# Altium integrated library Analog Devices Interface and Isolation Digital Isolators.IntLib: 644 symbols (part 34 of 37)
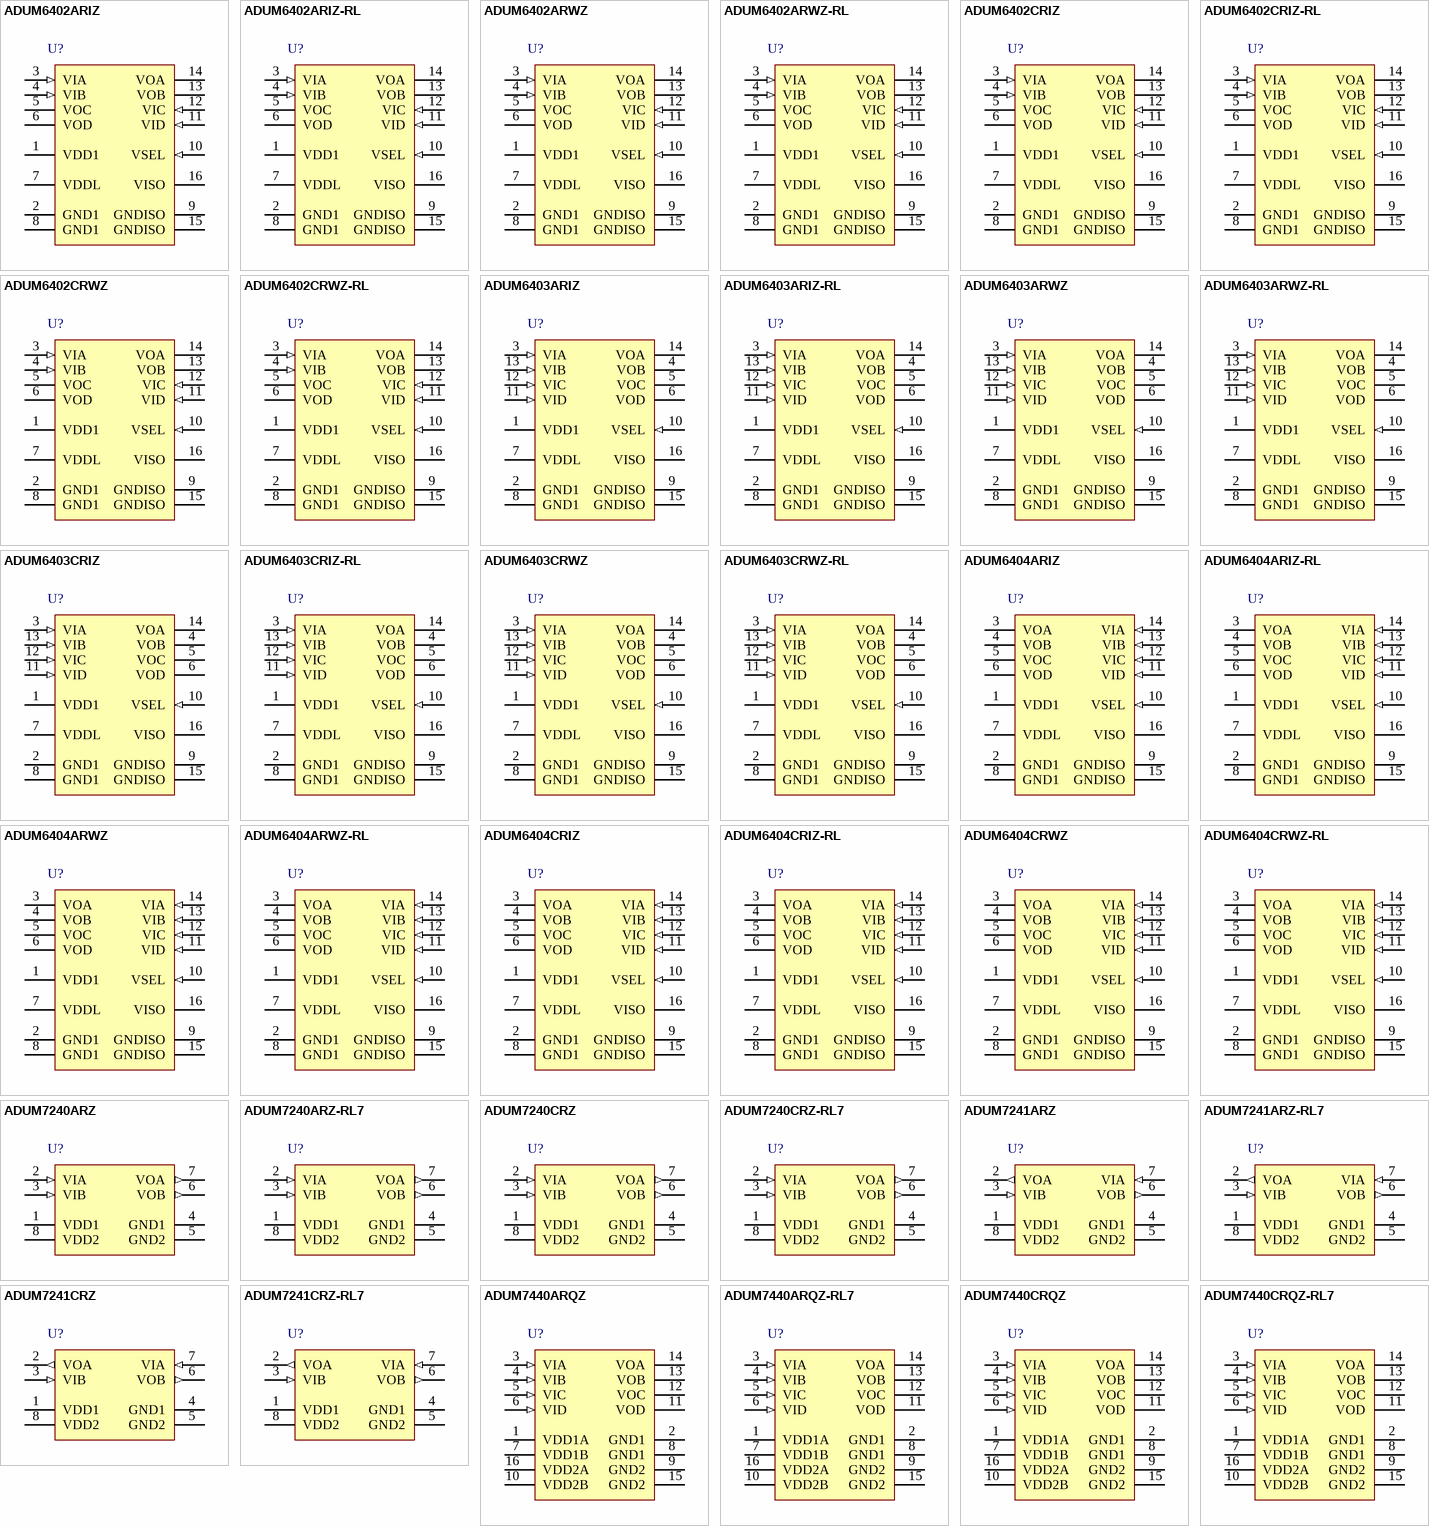
[diagram p53: symbols ADUM6402ARIZ to ADUM7440CRQZ-RL7]

## ADUM6403ARIZ
designator U?
Quad Channel Isolator with Integrated DC / DC Converter, 5 KV rms Insulation Rating, 1 Mbps Data Rate, 100 ns Delay, Industrial, 16-pin SOIC (RI-16-1), Tube; Manufacturer: Analog Devices; PartNumber: ADUM6403ARIZ; Insulation Rating (kVrms): 5; Max Data Rate: 1Mbps; Prop Delay: 100ns; DatasheetVersion: Rev. A; PackageVersion: 10-12-2010-A, 02/2012; PackageReference: RI-16-1; PackageDescription: 16-Pin Standard Small Outline Package, with Increased Creepage, Body 12.8 x 7.5 mm, Pitch 1.27 mm; Supplier 1: Digi-Key; Supplier Part Number 1: ADUM6403ARIZ-ND; Supplier 2: Mouser; Supplier Part Number 2: 584-ADUM6403ARIZ; Max Operating Temp (degreesC): 105; Mounting Technology: Surface Mount; Code_JEDEC: MS-013-AC; ComponentLink1Description: Manufacturer URL; ComponentLink1URL: http://www.analog.com/en/index.html; ComponentLink2Description: Datasheet; ComponentLink2URL: http://www.analog.com/static/imported-files/data_sheets/ADuM6400_6401_6402_6403_6404.pdf; ComponentLink3Description: Package Specification; ComponentLink3URL: http://www.analog.com/static/imported-files/data_sheets/ADuM2400_2401_2402.pdf
footprint ADI-RI-16-1_N (SOIC, 16-Leads, Body 12.8x7.5mm, Pitch 1.27mm, IPC Medium Density)
footprint ADI-RI-16-1_L (SOIC, 16-Leads, Body 12.8x7.5mm, Pitch 1.27mm, IPC High Density)
footprint ADI-RI-16-1_M (SOIC, 16-Leads, Body 12.8x7.5mm, Pitch 1.27mm, IPC Low Density)
pins: 1 VDD1 (power) "Primary Supply Voltage, 3.0 V to 5.5 V. Pin 1 and Pin 7 must be connected to the same external voltage source.", 2 GND1 (power) "Ground Reference for the Primary Side of the Isolator. Pin 2 and Pin 8 are internally connected to each other, and it is recommed that both pins be connected to a common ground.", 3 VIA (in) "Logic Input A.", 4 VOB (hiz) "Logic Output B.", 5 VOC (hiz) "Logic Output C.", 6 VOD (hiz) "Logic Output D", 7 VDDL (power) "Data Channel Supply Voltage, 3.0 V to 5.5 V. Pin 1 and Pin 7 must be connected to the same external voltage source", 8 GND1 (power) "Ground Reference for the Primary Side of the Isolator. Pin 2 and Pin 8 are internally connected to each other, and it is recommed that both pins be connected to a common ground.", 9 GNDISO (power) "Ground Reference for the Secondary Side of the Isolator. Pin 9 and Pin 15 are internally connected to each other,  and it is recommended that both pins be connected to a common ground.", 10 VSEL (in) "Output Voltage Selection. When VSEL = VISO, the VISO setpoint is 5.0 V. When VSEL = GNDISO, the VISO setpoint is 3.3 V", 11 VID (in) "Logic Input D.", 12 VIC (in) "Logic Input C.", 13 VIB (in) "Logic Input B.", 14 VOA (hiz) "Logic Output A.", 15 GNDISO (power) "Ground Reference for the Secondary Side of the Isolator. Pin 9 and Pin 15 are internally connected to each other,  and it is recommended that both pins be connected to a common ground.", 16 VISO (power) "Secondary Supply Voltage Output for External Loads: 3.3 V (VSEL = GNDISO) or 5.0 V (VSEL = VISO)."

## ADUM6403ARIZ-RL
designator U?
Quad Channel Isolator with Integrated DC / DC Converter, 5 KV rms Insulation Rating, 1 Mbps Data Rate, 100 ns Delay, Industrial, 16-pin SOIC (RI-16-1), Reel; Manufacturer: Analog Devices; PartNumber: ADUM6403ARIZ-RL; Insulation Rating (kVrms): 5; Max Data Rate: 1Mbps; Prop Delay: 100ns; DatasheetVersion: Rev. A; PackageVersion: 10-12-2010-A, 02/2012; PackageReference: RI-16-1; PackageDescription: 16-Pin Standard Small Outline Package, with Increased Creepage, Body 12.8 x 7.5 mm, Pitch 1.27 mm; Supplier 1: Digi-Key; Supplier Part Number 1: ADUM6403ARIZ-RL-ND; Supplier 2: Mouser; Supplier Part Number 2: 584-ADUM6403ARIZ-R; Max Operating Temp (degreesC): 105; Mounting Technology: Surface Mount; Code_JEDEC: MS-013-AC; ComponentLink1Description: Manufacturer URL; ComponentLink1URL: http://www.analog.com/en/index.html; ComponentLink2Description: Datasheet; ComponentLink2URL: http://www.analog.com/static/imported-files/data_sheets/ADuM6400_6401_6402_6403_6404.pdf; ComponentLink3Description: Package Specification; ComponentLink3URL: http://www.analog.com/static/imported-files/data_sheets/ADuM2400_2401_2402.pdf
footprint ADI-RI-16-1_N (SOIC, 16-Leads, Body 12.8x7.5mm, Pitch 1.27mm, IPC Medium Density)
footprint ADI-RI-16-1_L (SOIC, 16-Leads, Body 12.8x7.5mm, Pitch 1.27mm, IPC High Density)
footprint ADI-RI-16-1_M (SOIC, 16-Leads, Body 12.8x7.5mm, Pitch 1.27mm, IPC Low Density)
pins: 1 VDD1 (power) "Primary Supply Voltage, 3.0 V to 5.5 V. Pin 1 and Pin 7 must be connected to the same external voltage source.", 2 GND1 (power) "Ground Reference for the Primary Side of the Isolator. Pin 2 and Pin 8 are internally connected to each other, and it is recommed that both pins be connected to a common ground.", 3 VIA (in) "Logic Input A.", 4 VOB (hiz) "Logic Output B.", 5 VOC (hiz) "Logic Output C.", 6 VOD (hiz) "Logic Output D", 7 VDDL (power) "Data Channel Supply Voltage, 3.0 V to 5.5 V. Pin 1 and Pin 7 must be connected to the same external voltage source", 8 GND1 (power) "Ground Reference for the Primary Side of the Isolator. Pin 2 and Pin 8 are internally connected to each other, and it is recommed that both pins be connected to a common ground.", 9 GNDISO (power) "Ground Reference for the Secondary Side of the Isolator. Pin 9 and Pin 15 are internally connected to each other,  and it is recommended that both pins be connected to a common ground.", 10 VSEL (in) "Output Voltage Selection. When VSEL = VISO, the VISO setpoint is 5.0 V. When VSEL = GNDISO, the VISO setpoint is 3.3 V", 11 VID (in) "Logic Input D.", 12 VIC (in) "Logic Input C.", 13 VIB (in) "Logic Input B.", 14 VOA (hiz) "Logic Output A.", 15 GNDISO (power) "Ground Reference for the Secondary Side of the Isolator. Pin 9 and Pin 15 are internally connected to each other,  and it is recommended that both pins be connected to a common ground.", 16 VISO (power) "Secondary Supply Voltage Output for External Loads: 3.3 V (VSEL = GNDISO) or 5.0 V (VSEL = VISO)."

## ADUM6403ARWZ
designator U?
Quad Channel Isolator with Integrated DC / DC Converter, 5 KV rms Insulation Rating, 1 Mbps Data Rate, 100 ns Delay, Industrial, 16-pin SOIC (RW-16), Tube; Manufacturer: Analog Devices; PartNumber: ADUM6403ARWZ; Insulation Rating (kVrms): 5; Max Data Rate: 1Mbps; Prop Delay: 100ns; DatasheetVersion: Rev. A; PackageVersion: 032707-B, 03/2007; PackageReference: RW-16; PackageDescription: 16-Pin Standard Small Outline Package, Body 10.3 x 7.5 mm, Pitch 1.27 mm; Supplier 1: Digi-Key; Supplier Part Number 1: ADUM6403ARWZ-ND; Supplier 2: Mouser; Supplier Part Number 2: 584-ADUM6403ARWZ; Max Operating Temp (degreesC): 105; Mounting Technology: Surface Mount; Code_JEDEC: MS-013-AA; ComponentLink1Description: Manufacturer URL; ComponentLink1URL: http://www.analog.com/en/index.html; ComponentLink2Description: Datasheet; ComponentLink2URL: http://www.analog.com/static/imported-files/data_sheets/ADuM6400_6401_6402_6403_6404.pdf; ComponentLink3Description: Package Specification; ComponentLink3URL: http://www.analog.com/static/imported-files/packages/PKG_PDF/SOIC_WIDE%20%28RW%29/RW_16.pdf
footprint ADI-RW-16_N (SOIC, 16-Leads, Body 10.3x7.5mm, Pitch 1.27mm, IPC Medium Density)
footprint ADI-RW-16_L (SOIC, 16-Leads, Body 10.3x7.5mm, Pitch 1.27mm, IPC High Density)
footprint ADI-RW-16_M (SOIC, 16-Leads, Body 10.3x7.5mm, Pitch 1.27mm, IPC Low Density)
pins: 1 VDD1 (power) "Primary Supply Voltage, 3.0 V to 5.5 V. Pin 1 and Pin 7 must be connected to the same external voltage source.", 2 GND1 (power) "Ground Reference for the Primary Side of the Isolator. Pin 2 and Pin 8 are internally connected to each other, and it is recommed that both pins be connected to a common ground.", 3 VIA (in) "Logic Input A.", 4 VOB (hiz) "Logic Output B.", 5 VOC (hiz) "Logic Output C.", 6 VOD (hiz) "Logic Output D", 7 VDDL (power) "Data Channel Supply Voltage, 3.0 V to 5.5 V. Pin 1 and Pin 7 must be connected to the same external voltage source", 8 GND1 (power) "Ground Reference for the Primary Side of the Isolator. Pin 2 and Pin 8 are internally connected to each other, and it is recommed that both pins be connected to a common ground.", 9 GNDISO (power) "Ground Reference for the Secondary Side of the Isolator. Pin 9 and Pin 15 are internally connected to each other,  and it is recommended that both pins be connected to a common ground.", 10 VSEL (in) "Output Voltage Selection. When VSEL = VISO, the VISO setpoint is 5.0 V. When VSEL = GNDISO, the VISO setpoint is 3.3 V", 11 VID (in) "Logic Input D.", 12 VIC (in) "Logic Input C.", 13 VIB (in) "Logic Input B.", 14 VOA (hiz) "Logic Output A.", 15 GNDISO (power) "Ground Reference for the Secondary Side of the Isolator. Pin 9 and Pin 15 are internally connected to each other,  and it is recommended that both pins be connected to a common ground.", 16 VISO (power) "Secondary Supply Voltage Output for External Loads: 3.3 V (VSEL = GNDISO) or 5.0 V (VSEL = VISO)."

## ADUM6403ARWZ-RL
designator U?
Quad Channel Isolator with Integrated DC / DC Converter, 5 KV rms Insulation Rating, 1 Mbps Data Rate, 100 ns Delay, Industrial, 16-pin SOIC (RW-16), Reel; Manufacturer: Analog Devices; PartNumber: ADUM6403ARWZ-RL; Insulation Rating (kVrms): 5; Max Data Rate: 1Mbps; Prop Delay: 100ns; DatasheetVersion: Rev. A; PackageVersion: 032707-B, 03/2007; PackageReference: RW-16; PackageDescription: 16-Pin Standard Small Outline Package, Body 10.3 x 7.5 mm, Pitch 1.27 mm; Supplier 1: Digi-Key; Supplier Part Number 1: ADUM6403ARWZ-RLTR-ND; Supplier 2: Digi-Key; Supplier Part Number 2: ADUM6403ARWZ-RLCT-ND; Supplier 3: Digi-Key; Supplier Part Number 3: ADUM6403ARWZ-RLDKR-ND; Supplier 4: Mouser; Supplier Part Number 4: 584-ADUM6403ARWZ-R; Max Operating Temp (degreesC): 105; Mounting Technology: Surface Mount; Code_JEDEC: MS-013-AA; ComponentLink1Description: Manufacturer URL; ComponentLink1URL: http://www.analog.com/en/index.html; ComponentLink2Description: Datasheet; ComponentLink2URL: http://www.analog.com/static/imported-files/data_sheets/ADuM6400_6401_6402_6403_6404.pdf; ComponentLink3Description: Package Specification; ComponentLink3URL: http://www.analog.com/static/imported-files/packages/PKG_PDF/SOIC_WIDE%20%28RW%29/RW_16.pdf
footprint ADI-RW-16_N (SOIC, 16-Leads, Body 10.3x7.5mm, Pitch 1.27mm, IPC Medium Density)
footprint ADI-RW-16_L (SOIC, 16-Leads, Body 10.3x7.5mm, Pitch 1.27mm, IPC High Density)
footprint ADI-RW-16_M (SOIC, 16-Leads, Body 10.3x7.5mm, Pitch 1.27mm, IPC Low Density)
pins: 1 VDD1 (power) "Primary Supply Voltage, 3.0 V to 5.5 V. Pin 1 and Pin 7 must be connected to the same external voltage source.", 2 GND1 (power) "Ground Reference for the Primary Side of the Isolator. Pin 2 and Pin 8 are internally connected to each other, and it is recommed that both pins be connected to a common ground.", 3 VIA (in) "Logic Input A.", 4 VOB (hiz) "Logic Output B.", 5 VOC (hiz) "Logic Output C.", 6 VOD (hiz) "Logic Output D", 7 VDDL (power) "Data Channel Supply Voltage, 3.0 V to 5.5 V. Pin 1 and Pin 7 must be connected to the same external voltage source", 8 GND1 (power) "Ground Reference for the Primary Side of the Isolator. Pin 2 and Pin 8 are internally connected to each other, and it is recommed that both pins be connected to a common ground.", 9 GNDISO (power) "Ground Reference for the Secondary Side of the Isolator. Pin 9 and Pin 15 are internally connected to each other,  and it is recommended that both pins be connected to a common ground.", 10 VSEL (in) "Output Voltage Selection. When VSEL = VISO, the VISO setpoint is 5.0 V. When VSEL = GNDISO, the VISO setpoint is 3.3 V", 11 VID (in) "Logic Input D.", 12 VIC (in) "Logic Input C.", 13 VIB (in) "Logic Input B.", 14 VOA (hiz) "Logic Output A.", 15 GNDISO (power) "Ground Reference for the Secondary Side of the Isolator. Pin 9 and Pin 15 are internally connected to each other,  and it is recommended that both pins be connected to a common ground.", 16 VISO (power) "Secondary Supply Voltage Output for External Loads: 3.3 V (VSEL = GNDISO) or 5.0 V (VSEL = VISO)."

## ADUM6403CRIZ
designator U?
Quad Channel Isolator with Integrated DC / DC Converter, 5 KV rms Insulation Rating, 25 Mbps Data Rate, 60 ns Delay, Industrial, 16-pin SOIC (RI-16-1), Tube; Manufacturer: Analog Devices; PartNumber: ADUM6403CRIZ; Insulation Rating (kVrms): 5; Max Data Rate: 25Mbps; Prop Delay: 60ns; DatasheetVersion: Rev. A; PackageVersion: 10-12-2010-A, 02/2012; PackageReference: RI-16-1; PackageDescription: 16-Pin Standard Small Outline Package, with Increased Creepage, Body 12.8 x 7.5 mm, Pitch 1.27 mm; Supplier 1: Digi-Key; Supplier Part Number 1: ADUM6403CRIZ-ND; Supplier 2: Mouser; Supplier Part Number 2: 584-ADUM6403CRIZ; Max Operating Temp (degreesC): 105; Mounting Technology: Surface Mount; Code_JEDEC: MS-013-AC; ComponentLink1Description: Manufacturer URL; ComponentLink1URL: http://www.analog.com/en/index.html; ComponentLink2Description: Datasheet; ComponentLink2URL: http://www.analog.com/static/imported-files/data_sheets/ADuM6400_6401_6402_6403_6404.pdf; ComponentLink3Description: Package Specification; ComponentLink3URL: http://www.analog.com/static/imported-files/data_sheets/ADuM2400_2401_2402.pdf
footprint ADI-RI-16-1_N (SOIC, 16-Leads, Body 12.8x7.5mm, Pitch 1.27mm, IPC Medium Density)
footprint ADI-RI-16-1_L (SOIC, 16-Leads, Body 12.8x7.5mm, Pitch 1.27mm, IPC High Density)
footprint ADI-RI-16-1_M (SOIC, 16-Leads, Body 12.8x7.5mm, Pitch 1.27mm, IPC Low Density)
pins: 1 VDD1 (power) "Primary Supply Voltage, 3.0 V to 5.5 V. Pin 1 and Pin 7 must be connected to the same external voltage source.", 2 GND1 (power) "Ground Reference for the Primary Side of the Isolator. Pin 2 and Pin 8 are internally connected to each other, and it is recommed that both pins be connected to a common ground.", 3 VIA (in) "Logic Input A.", 4 VOB (hiz) "Logic Output B.", 5 VOC (hiz) "Logic Output C.", 6 VOD (hiz) "Logic Output D", 7 VDDL (power) "Data Channel Supply Voltage, 3.0 V to 5.5 V. Pin 1 and Pin 7 must be connected to the same external voltage source", 8 GND1 (power) "Ground Reference for the Primary Side of the Isolator. Pin 2 and Pin 8 are internally connected to each other, and it is recommed that both pins be connected to a common ground.", 9 GNDISO (power) "Ground Reference for the Secondary Side of the Isolator. Pin 9 and Pin 15 are internally connected to each other,  and it is recommended that both pins be connected to a common ground.", 10 VSEL (in) "Output Voltage Selection. When VSEL = VISO, the VISO setpoint is 5.0 V. When VSEL = GNDISO, the VISO setpoint is 3.3 V", 11 VID (in) "Logic Input D.", 12 VIC (in) "Logic Input C.", 13 VIB (in) "Logic Input B.", 14 VOA (hiz) "Logic Output A.", 15 GNDISO (power) "Ground Reference for the Secondary Side of the Isolator. Pin 9 and Pin 15 are internally connected to each other,  and it is recommended that both pins be connected to a common ground.", 16 VISO (power) "Secondary Supply Voltage Output for External Loads: 3.3 V (VSEL = GNDISO) or 5.0 V (VSEL = VISO)."

## ADUM6403CRIZ-RL
designator U?
Quad Channel Isolator with Integrated DC / DC Converter, 5 KV rms Insulation Rating, 25 Mbps Data Rate, 60 ns Delay, Industrial, 16-pin SOIC (RI-16-1), Reel; Manufacturer: Analog Devices; PartNumber: ADUM6403CRIZ-RL; Insulation Rating (kVrms): 5; Max Data Rate: 25Mbps; Prop Delay: 60ns; DatasheetVersion: Rev. A; PackageVersion: 10-12-2010-A, 02/2012; PackageReference: RI-16-1; PackageDescription: 16-Pin Standard Small Outline Package, with Increased Creepage, Body 12.8 x 7.5 mm, Pitch 1.27 mm; Supplier 1: Digi-Key; Supplier Part Number 1: ADUM6403CRIZ-RL-ND; Supplier 2: Mouser; Supplier Part Number 2: 584-ADUM6403CRIZ-R; Max Operating Temp (degreesC): 105; Mounting Technology: Surface Mount; Code_JEDEC: MS-013-AC; ComponentLink1Description: Manufacturer URL; ComponentLink1URL: http://www.analog.com/en/index.html; ComponentLink2Description: Datasheet; ComponentLink2URL: http://www.analog.com/static/imported-files/data_sheets/ADuM6400_6401_6402_6403_6404.pdf; ComponentLink3Description: Package Specification; ComponentLink3URL: http://www.analog.com/static/imported-files/data_sheets/ADuM2400_2401_2402.pdf
footprint ADI-RI-16-1_N (SOIC, 16-Leads, Body 12.8x7.5mm, Pitch 1.27mm, IPC Medium Density)
footprint ADI-RI-16-1_L (SOIC, 16-Leads, Body 12.8x7.5mm, Pitch 1.27mm, IPC High Density)
footprint ADI-RI-16-1_M (SOIC, 16-Leads, Body 12.8x7.5mm, Pitch 1.27mm, IPC Low Density)
pins: 1 VDD1 (power) "Primary Supply Voltage, 3.0 V to 5.5 V. Pin 1 and Pin 7 must be connected to the same external voltage source.", 2 GND1 (power) "Ground Reference for the Primary Side of the Isolator. Pin 2 and Pin 8 are internally connected to each other, and it is recommed that both pins be connected to a common ground.", 3 VIA (in) "Logic Input A.", 4 VOB (hiz) "Logic Output B.", 5 VOC (hiz) "Logic Output C.", 6 VOD (hiz) "Logic Output D", 7 VDDL (power) "Data Channel Supply Voltage, 3.0 V to 5.5 V. Pin 1 and Pin 7 must be connected to the same external voltage source", 8 GND1 (power) "Ground Reference for the Primary Side of the Isolator. Pin 2 and Pin 8 are internally connected to each other, and it is recommed that both pins be connected to a common ground.", 9 GNDISO (power) "Ground Reference for the Secondary Side of the Isolator. Pin 9 and Pin 15 are internally connected to each other,  and it is recommended that both pins be connected to a common ground.", 10 VSEL (in) "Output Voltage Selection. When VSEL = VISO, the VISO setpoint is 5.0 V. When VSEL = GNDISO, the VISO setpoint is 3.3 V", 11 VID (in) "Logic Input D.", 12 VIC (in) "Logic Input C.", 13 VIB (in) "Logic Input B.", 14 VOA (hiz) "Logic Output A.", 15 GNDISO (power) "Ground Reference for the Secondary Side of the Isolator. Pin 9 and Pin 15 are internally connected to each other,  and it is recommended that both pins be connected to a common ground.", 16 VISO (power) "Secondary Supply Voltage Output for External Loads: 3.3 V (VSEL = GNDISO) or 5.0 V (VSEL = VISO)."

## ADUM6403CRWZ
designator U?
Quad Channel Isolator with Integrated DC / DC Converter, 5 KV rms Insulation Rating, 25 Mbps Data Rate, 60 ns Delay, Industrial, 16-pin SOIC (RW-16), Tube; Manufacturer: Analog Devices; PartNumber: ADUM6403CRWZ; Insulation Rating (kVrms): 5; Max Data Rate: 25Mbps; Prop Delay: 60ns; DatasheetVersion: Rev. A; PackageVersion: 032707-B, 03/2007; PackageReference: RW-16; PackageDescription: 16-Pin Standard Small Outline Package, Body 10.3 x 7.5 mm, Pitch 1.27 mm; Supplier 1: Digi-Key; Supplier Part Number 1: ADUM6403CRWZ-ND; Supplier 2: Mouser; Supplier Part Number 2: 584-ADUM6403CRWZ; Max Operating Temp (degreesC): 105; Mounting Technology: Surface Mount; Code_JEDEC: MS-013-AA; ComponentLink1Description: Manufacturer URL; ComponentLink1URL: http://www.analog.com/en/index.html; ComponentLink2Description: Datasheet; ComponentLink2URL: http://www.analog.com/static/imported-files/data_sheets/ADuM6400_6401_6402_6403_6404.pdf; ComponentLink3Description: Package Specification; ComponentLink3URL: http://www.analog.com/static/imported-files/packages/PKG_PDF/SOIC_WIDE%20%28RW%29/RW_16.pdf
footprint ADI-RW-16_N (SOIC, 16-Leads, Body 10.3x7.5mm, Pitch 1.27mm, IPC Medium Density)
footprint ADI-RW-16_L (SOIC, 16-Leads, Body 10.3x7.5mm, Pitch 1.27mm, IPC High Density)
footprint ADI-RW-16_M (SOIC, 16-Leads, Body 10.3x7.5mm, Pitch 1.27mm, IPC Low Density)
pins: 1 VDD1 (power) "Primary Supply Voltage, 3.0 V to 5.5 V. Pin 1 and Pin 7 must be connected to the same external voltage source.", 2 GND1 (power) "Ground Reference for the Primary Side of the Isolator. Pin 2 and Pin 8 are internally connected to each other, and it is recommed that both pins be connected to a common ground.", 3 VIA (in) "Logic Input A.", 4 VOB (hiz) "Logic Output B.", 5 VOC (hiz) "Logic Output C.", 6 VOD (hiz) "Logic Output D", 7 VDDL (power) "Data Channel Supply Voltage, 3.0 V to 5.5 V. Pin 1 and Pin 7 must be connected to the same external voltage source", 8 GND1 (power) "Ground Reference for the Primary Side of the Isolator. Pin 2 and Pin 8 are internally connected to each other, and it is recommed that both pins be connected to a common ground.", 9 GNDISO (power) "Ground Reference for the Secondary Side of the Isolator. Pin 9 and Pin 15 are internally connected to each other,  and it is recommended that both pins be connected to a common ground.", 10 VSEL (in) "Output Voltage Selection. When VSEL = VISO, the VISO setpoint is 5.0 V. When VSEL = GNDISO, the VISO setpoint is 3.3 V", 11 VID (in) "Logic Input D.", 12 VIC (in) "Logic Input C.", 13 VIB (in) "Logic Input B.", 14 VOA (hiz) "Logic Output A.", 15 GNDISO (power) "Ground Reference for the Secondary Side of the Isolator. Pin 9 and Pin 15 are internally connected to each other,  and it is recommended that both pins be connected to a common ground.", 16 VISO (power) "Secondary Supply Voltage Output for External Loads: 3.3 V (VSEL = GNDISO) or 5.0 V (VSEL = VISO)."

## ADUM6403CRWZ-RL
designator U?
Quad Channel Isolator with Integrated DC / DC Converter, 5 KV rms Insulation Rating, 25 Mbps Data Rate, 60 ns Delay, Industrial, 16-pin SOIC (RW-16), Reel; Manufacturer: Analog Devices; PartNumber: ADUM6403CRWZ-RL; Insulation Rating (kVrms): 5; Max Data Rate: 25Mbps; Prop Delay: 60ns; DatasheetVersion: Rev. A; PackageVersion: 032707-B, 03/2007; PackageReference: RW-16; PackageDescription: 16-Pin Standard Small Outline Package, Body 10.3 x 7.5 mm, Pitch 1.27 mm; Supplier 1: Digi-Key; Supplier Part Number 1: ADUM6403CRWZ-RL-ND; Supplier 2: Mouser; Supplier Part Number 2: 584-ADUM6403CRWZ-R; Max Operating Temp (degreesC): 105; Mounting Technology: Surface Mount; Code_JEDEC: MS-013-AA; ComponentLink1Description: Manufacturer URL; ComponentLink1URL: http://www.analog.com/en/index.html; ComponentLink2Description: Datasheet; ComponentLink2URL: http://www.analog.com/static/imported-files/data_sheets/ADuM6400_6401_6402_6403_6404.pdf; ComponentLink3Description: Package Specification; ComponentLink3URL: http://www.analog.com/static/imported-files/packages/PKG_PDF/SOIC_WIDE%20%28RW%29/RW_16.pdf
footprint ADI-RW-16_N (SOIC, 16-Leads, Body 10.3x7.5mm, Pitch 1.27mm, IPC Medium Density)
footprint ADI-RW-16_L (SOIC, 16-Leads, Body 10.3x7.5mm, Pitch 1.27mm, IPC High Density)
footprint ADI-RW-16_M (SOIC, 16-Leads, Body 10.3x7.5mm, Pitch 1.27mm, IPC Low Density)
pins: 1 VDD1 (power) "Primary Supply Voltage, 3.0 V to 5.5 V. Pin 1 and Pin 7 must be connected to the same external voltage source.", 2 GND1 (power) "Ground Reference for the Primary Side of the Isolator. Pin 2 and Pin 8 are internally connected to each other, and it is recommed that both pins be connected to a common ground.", 3 VIA (in) "Logic Input A.", 4 VOB (hiz) "Logic Output B.", 5 VOC (hiz) "Logic Output C.", 6 VOD (hiz) "Logic Output D", 7 VDDL (power) "Data Channel Supply Voltage, 3.0 V to 5.5 V. Pin 1 and Pin 7 must be connected to the same external voltage source", 8 GND1 (power) "Ground Reference for the Primary Side of the Isolator. Pin 2 and Pin 8 are internally connected to each other, and it is recommed that both pins be connected to a common ground.", 9 GNDISO (power) "Ground Reference for the Secondary Side of the Isolator. Pin 9 and Pin 15 are internally connected to each other,  and it is recommended that both pins be connected to a common ground.", 10 VSEL (in) "Output Voltage Selection. When VSEL = VISO, the VISO setpoint is 5.0 V. When VSEL = GNDISO, the VISO setpoint is 3.3 V", 11 VID (in) "Logic Input D.", 12 VIC (in) "Logic Input C.", 13 VIB (in) "Logic Input B.", 14 VOA (hiz) "Logic Output A.", 15 GNDISO (power) "Ground Reference for the Secondary Side of the Isolator. Pin 9 and Pin 15 are internally connected to each other,  and it is recommended that both pins be connected to a common ground.", 16 VISO (power) "Secondary Supply Voltage Output for External Loads: 3.3 V (VSEL = GNDISO) or 5.0 V (VSEL = VISO)."

## ADUM6404ARIZ
designator U?
Quad Channel Isolator with Integrated DC / DC Converter, 5 KV rms Insulation Rating, 1 Mbps Data Rate, 100 ns Delay, Industrial, 16-pin SOIC (RI-16-1), Tube; Manufacturer: Analog Devices; PartNumber: ADUM6404ARIZ; Insulation Rating (kVrms): 5; Max Data Rate: 1Mbps; Prop Delay: 100ns; DatasheetVersion: Rev. A; PackageVersion: 10-12-2010-A, 02/2012; PackageReference: RI-16-1; PackageDescription: 16-Pin Standard Small Outline Package, with Increased Creepage, Body 12.8 x 7.5 mm, Pitch 1.27 mm; Supplier 1: Digi-Key; Supplier Part Number 1: ADUM6404ARIZ-ND; Supplier 2: Mouser; Supplier Part Number 2: 584-ADUM6404ARIZ; Max Operating Temp (degreesC): 105; Mounting Technology: Surface Mount; Code_JEDEC: MS-013-AC; ComponentLink1Description: Manufacturer URL; ComponentLink1URL: http://www.analog.com/en/index.html; ComponentLink2Description: Datasheet; ComponentLink2URL: http://www.analog.com/static/imported-files/data_sheets/ADuM6400_6401_6402_6403_6404.pdf; ComponentLink3Description: Package Specification; ComponentLink3URL: http://www.analog.com/static/imported-files/data_sheets/ADuM2400_2401_2402.pdf
footprint ADI-RI-16-1_N (SOIC, 16-Leads, Body 12.8x7.5mm, Pitch 1.27mm, IPC Medium Density)
footprint ADI-RI-16-1_L (SOIC, 16-Leads, Body 12.8x7.5mm, Pitch 1.27mm, IPC High Density)
footprint ADI-RI-16-1_M (SOIC, 16-Leads, Body 12.8x7.5mm, Pitch 1.27mm, IPC Low Density)
pins: 1 VDD1 (power) "Primary Supply Voltage, 3.0 V to 5.5 V. Pin 1 and Pin 7 must be connected to the same external voltage source.", 2 GND1 (power) "Ground Reference for the Primary Side of the Isolator. Pin 2 and Pin 8 are internally connected to each other, and it is recommended that both pins be connected to a common ground.", 3 VOA (hiz) "Logic Output A.", 4 VOB (hiz) "Logic Output B.", 5 VOC (hiz) "Logic Output C.", 6 VOD (hiz) "Logic Output D.", 7 VDDL (power) "Data Channel Supply Voltage, 3.0 V to 5.5 V. Pin 1 and Pin 7 must be connected to the same external voltage source.", 8 GND1 (power) "Ground Reference for the Primary Side of the Isolator. Pin 2 and Pin 8 are internally connected to each other, and it is recommended that both pins be connected to a common ground.", 9 GNDISO (power) "Ground Reference for the Secondary Side of the Isolator. Pin 9 and Pin 15 are internally connected to each other, and it is recommended that both pins be connected to a common ground.", 10 VSEL (in) "Output Voltage Selection. When VSEL = VISO, the VISO setpoint is 5.0 V. When VSEL = GNDISO, the VISO setpoint is 3.3 V.", 11 VID (in) "Logic Input D.", 12 VIC (in) "Logic Input C.", 13 VIB (in) "Logic Input B.", 14 VIA (in) "Logic Input A.", 15 GNDISO (power) "Ground Reference for the Secondary Side of the Isolator. Pin 9 and Pin 15 are internally connected to each other, and it is recommended that both pins be connected to a common ground.", 16 VISO (power) "Secondary Supply Voltage Output for External Loads: 3.3 V (VSEL = GNDISO) or 5.0 V (VSEL = VISO)."

## ADUM6404ARIZ-RL
designator U?
Quad Channel Isolator with Integrated DC / DC Converter, 5 KV rms Insulation Rating, 1 Mbps Data Rate, 100 ns Delay, Industrial, 16-pin SOIC (RI-16-1), Reel; Manufacturer: Analog Devices; PartNumber: ADUM6404ARIZ-RL; Insulation Rating (kVrms): 5; Max Data Rate: 1Mbps; Prop Delay: 100ns; DatasheetVersion: Rev. A; PackageVersion: 10-12-2010-A, 02/2012; PackageReference: RI-16-1; PackageDescription: 16-Pin Standard Small Outline Package, with Increased Creepage, Body 12.8 x 7.5 mm, Pitch 1.27 mm; Supplier 1: Digi-Key; Supplier Part Number 1: ADUM6404ARIZ-RL-ND; Supplier 2: Mouser; Supplier Part Number 2: 584-ADUM6404ARIZ-R; Max Operating Temp (degreesC): 105; Mounting Technology: Surface Mount; Code_JEDEC: MS-013-AC; ComponentLink1Description: Manufacturer URL; ComponentLink1URL: http://www.analog.com/en/index.html; ComponentLink2Description: Datasheet; ComponentLink2URL: http://www.analog.com/static/imported-files/data_sheets/ADuM6400_6401_6402_6403_6404.pdf; ComponentLink3Description: Package Specification; ComponentLink3URL: http://www.analog.com/static/imported-files/data_sheets/ADuM2400_2401_2402.pdf
footprint ADI-RI-16-1_N (SOIC, 16-Leads, Body 12.8x7.5mm, Pitch 1.27mm, IPC Medium Density)
footprint ADI-RI-16-1_L (SOIC, 16-Leads, Body 12.8x7.5mm, Pitch 1.27mm, IPC High Density)
footprint ADI-RI-16-1_M (SOIC, 16-Leads, Body 12.8x7.5mm, Pitch 1.27mm, IPC Low Density)
pins: 1 VDD1 (power) "Primary Supply Voltage, 3.0 V to 5.5 V. Pin 1 and Pin 7 must be connected to the same external voltage source.", 2 GND1 (power) "Ground Reference for the Primary Side of the Isolator. Pin 2 and Pin 8 are internally connected to each other, and it is recommended that both pins be connected to a common ground.", 3 VOA (hiz) "Logic Output A.", 4 VOB (hiz) "Logic Output B.", 5 VOC (hiz) "Logic Output C.", 6 VOD (hiz) "Logic Output D.", 7 VDDL (power) "Data Channel Supply Voltage, 3.0 V to 5.5 V. Pin 1 and Pin 7 must be connected to the same external voltage source.", 8 GND1 (power) "Ground Reference for the Primary Side of the Isolator. Pin 2 and Pin 8 are internally connected to each other, and it is recommended that both pins be connected to a common ground.", 9 GNDISO (power) "Ground Reference for the Secondary Side of the Isolator. Pin 9 and Pin 15 are internally connected to each other, and it is recommended that both pins be connected to a common ground.", 10 VSEL (in) "Output Voltage Selection. When VSEL = VISO, the VISO setpoint is 5.0 V. When VSEL = GNDISO, the VISO setpoint is 3.3 V.", 11 VID (in) "Logic Input D.", 12 VIC (in) "Logic Input C.", 13 VIB (in) "Logic Input B.", 14 VIA (in) "Logic Input A.", 15 GNDISO (power) "Ground Reference for the Secondary Side of the Isolator. Pin 9 and Pin 15 are internally connected to each other, and it is recommended that both pins be connected to a common ground.", 16 VISO (power) "Secondary Supply Voltage Output for External Loads: 3.3 V (VSEL = GNDISO) or 5.0 V (VSEL = VISO)."

## ADUM6404ARWZ
designator U?
Quad Channel Isolator with Integrated DC / DC Converter, 5 KV rms Insulation Rating, 1 Mbps Data Rate, 100 ns Delay, Industrial, 16-pin SOIC (RW-16), Tube; Manufacturer: Analog Devices; PartNumber: ADUM6404ARWZ; Insulation Rating (kVrms): 5; Max Data Rate: 1Mbps; Prop Delay: 100ns; DatasheetVersion: Rev. A; PackageVersion: 032707-B, 03/2007; PackageReference: RW-16; PackageDescription: 16-Pin Standard Small Outline Package, Body 10.3 x 7.5 mm, Pitch 1.27 mm; Supplier 1: Digi-Key; Supplier Part Number 1: ADUM6404ARWZ-ND; Supplier 2: Farnell; Supplier Part Number 2: 1858060; Supplier 3: Mouser; Supplier Part Number 3: 584-ADUM6404ARWZ; Max Operating Temp (degreesC): 105; Mounting Technology: Surface Mount; Code_JEDEC: MS-013-AA; ComponentLink1Description: Manufacturer URL; ComponentLink1URL: http://www.analog.com/en/index.html; ComponentLink2Description: Datasheet; ComponentLink2URL: http://www.analog.com/static/imported-files/data_sheets/ADuM6400_6401_6402_6403_6404.pdf; ComponentLink3Description: Package Specification; ComponentLink3URL: http://www.analog.com/static/imported-files/packages/PKG_PDF/SOIC_WIDE%20%28RW%29/RW_16.pdf
footprint ADI-RW-16_N (SOIC, 16-Leads, Body 10.3x7.5mm, Pitch 1.27mm, IPC Medium Density)
footprint ADI-RW-16_L (SOIC, 16-Leads, Body 10.3x7.5mm, Pitch 1.27mm, IPC High Density)
footprint ADI-RW-16_M (SOIC, 16-Leads, Body 10.3x7.5mm, Pitch 1.27mm, IPC Low Density)
pins: 1 VDD1 (power) "Primary Supply Voltage, 3.0 V to 5.5 V. Pin 1 and Pin 7 must be connected to the same external voltage source.", 2 GND1 (power) "Ground Reference for the Primary Side of the Isolator. Pin 2 and Pin 8 are internally connected to each other, and it is recommended that both pins be connected to a common ground.", 3 VOA (hiz) "Logic Output A.", 4 VOB (hiz) "Logic Output B.", 5 VOC (hiz) "Logic Output C.", 6 VOD (hiz) "Logic Output D.", 7 VDDL (power) "Data Channel Supply Voltage, 3.0 V to 5.5 V. Pin 1 and Pin 7 must be connected to the same external voltage source.", 8 GND1 (power) "Ground Reference for the Primary Side of the Isolator. Pin 2 and Pin 8 are internally connected to each other, and it is recommended that both pins be connected to a common ground.", 9 GNDISO (power) "Ground Reference for the Secondary Side of the Isolator. Pin 9 and Pin 15 are internally connected to each other, and it is recommended that both pins be connected to a common ground.", 10 VSEL (in) "Output Voltage Selection. When VSEL = VISO, the VISO setpoint is 5.0 V. When VSEL = GNDISO, the VISO setpoint is 3.3 V.", 11 VID (in) "Logic Input D.", 12 VIC (in) "Logic Input C.", 13 VIB (in) "Logic Input B.", 14 VIA (in) "Logic Input A.", 15 GNDISO (power) "Ground Reference for the Secondary Side of the Isolator. Pin 9 and Pin 15 are internally connected to each other, and it is recommended that both pins be connected to a common ground.", 16 VISO (power) "Secondary Supply Voltage Output for External Loads: 3.3 V (VSEL = GNDISO) or 5.0 V (VSEL = VISO)."

## ADUM6404ARWZ-RL
designator U?
Quad Channel Isolator with Integrated DC / DC Converter, 5 KV rms Insulation Rating, 1 Mbps Data Rate, 100 ns Delay, Industrial, 16-pin SOIC (RW-16), Reel; Manufacturer: Analog Devices; PartNumber: ADUM6404ARWZ-RL; Insulation Rating (kVrms): 5; Max Data Rate: 1Mbps; Prop Delay: 100ns; DatasheetVersion: Rev. A; PackageVersion: 032707-B, 03/2007; PackageReference: RW-16; PackageDescription: 16-Pin Standard Small Outline Package, Body 10.3 x 7.5 mm, Pitch 1.27 mm; Supplier 1: Digi-Key; Supplier Part Number 1: ADUM6404ARWZ-RLTR-ND; Supplier 2: Digi-Key; Supplier Part Number 2: ADUM6404ARWZ-RLCT-ND; Supplier 3: Digi-Key; Supplier Part Number 3: ADUM6404ARWZ-RLDKR-ND; Supplier 4: Mouser; Supplier Part Number 4: 584-ADUM6404ARWZ-R; Max Operating Temp (degreesC): 105; Mounting Technology: Surface Mount; Code_JEDEC: MS-013-AA; ComponentLink1Description: Manufacturer URL; ComponentLink1URL: http://www.analog.com/en/index.html; ComponentLink2Description: Datasheet; ComponentLink2URL: http://www.analog.com/static/imported-files/data_sheets/ADuM6400_6401_6402_6403_6404.pdf; ComponentLink3Description: Package Specification; ComponentLink3URL: http://www.analog.com/static/imported-files/packages/PKG_PDF/SOIC_WIDE%20%28RW%29/RW_16.pdf
footprint ADI-RW-16_N (SOIC, 16-Leads, Body 10.3x7.5mm, Pitch 1.27mm, IPC Medium Density)
footprint ADI-RW-16_L (SOIC, 16-Leads, Body 10.3x7.5mm, Pitch 1.27mm, IPC High Density)
footprint ADI-RW-16_M (SOIC, 16-Leads, Body 10.3x7.5mm, Pitch 1.27mm, IPC Low Density)
pins: 1 VDD1 (power) "Primary Supply Voltage, 3.0 V to 5.5 V. Pin 1 and Pin 7 must be connected to the same external voltage source.", 2 GND1 (power) "Ground Reference for the Primary Side of the Isolator. Pin 2 and Pin 8 are internally connected to each other, and it is recommended that both pins be connected to a common ground.", 3 VOA (hiz) "Logic Output A.", 4 VOB (hiz) "Logic Output B.", 5 VOC (hiz) "Logic Output C.", 6 VOD (hiz) "Logic Output D.", 7 VDDL (power) "Data Channel Supply Voltage, 3.0 V to 5.5 V. Pin 1 and Pin 7 must be connected to the same external voltage source.", 8 GND1 (power) "Ground Reference for the Primary Side of the Isolator. Pin 2 and Pin 8 are internally connected to each other, and it is recommended that both pins be connected to a common ground.", 9 GNDISO (power) "Ground Reference for the Secondary Side of the Isolator. Pin 9 and Pin 15 are internally connected to each other, and it is recommended that both pins be connected to a common ground.", 10 VSEL (in) "Output Voltage Selection. When VSEL = VISO, the VISO setpoint is 5.0 V. When VSEL = GNDISO, the VISO setpoint is 3.3 V.", 11 VID (in) "Logic Input D.", 12 VIC (in) "Logic Input C.", 13 VIB (in) "Logic Input B.", 14 VIA (in) "Logic Input A.", 15 GNDISO (power) "Ground Reference for the Secondary Side of the Isolator. Pin 9 and Pin 15 are internally connected to each other, and it is recommended that both pins be connected to a common ground.", 16 VISO (power) "Secondary Supply Voltage Output for External Loads: 3.3 V (VSEL = GNDISO) or 5.0 V (VSEL = VISO)."

## ADUM6404CRIZ
designator U?
Quad Channel Isolator with Integrated DC / DC Converter, 5 KV rms Insulation Rating, 25 Mbps Data Rate, 60 ns Delay, Industrial, 16-pin SOIC (RI-16-1), Tube; Manufacturer: Analog Devices; PartNumber: ADUM6404CRIZ; Insulation Rating (kVrms): 5; Max Data Rate: 25Mbps; Prop Delay: 60ns; DatasheetVersion: Rev. A; PackageVersion: 10-12-2010-A, 02/2012; PackageReference: RI-16-1; PackageDescription: 16-Pin Standard Small Outline Package, with Increased Creepage, Body 12.8 x 7.5 mm, Pitch 1.27 mm; Supplier 1: Digi-Key; Supplier Part Number 1: ADUM6404CRIZ-ND; Supplier 2: Mouser; Supplier Part Number 2: 584-ADUM6404CRIZ; Max Operating Temp (degreesC): 105; Mounting Technology: Surface Mount; Code_JEDEC: MS-013-AC; ComponentLink1Description: Manufacturer URL; ComponentLink1URL: http://www.analog.com/en/index.html; ComponentLink2Description: Datasheet; ComponentLink2URL: http://www.analog.com/static/imported-files/data_sheets/ADuM6400_6401_6402_6403_6404.pdf; ComponentLink3Description: Package Specification; ComponentLink3URL: http://www.analog.com/static/imported-files/data_sheets/ADuM2400_2401_2402.pdf
footprint ADI-RI-16-1_N (SOIC, 16-Leads, Body 12.8x7.5mm, Pitch 1.27mm, IPC Medium Density)
footprint ADI-RI-16-1_L (SOIC, 16-Leads, Body 12.8x7.5mm, Pitch 1.27mm, IPC High Density)
footprint ADI-RI-16-1_M (SOIC, 16-Leads, Body 12.8x7.5mm, Pitch 1.27mm, IPC Low Density)
pins: 1 VDD1 (power) "Primary Supply Voltage, 3.0 V to 5.5 V. Pin 1 and Pin 7 must be connected to the same external voltage source.", 2 GND1 (power) "Ground Reference for the Primary Side of the Isolator. Pin 2 and Pin 8 are internally connected to each other, and it is recommended that both pins be connected to a common ground.", 3 VOA (hiz) "Logic Output A.", 4 VOB (hiz) "Logic Output B.", 5 VOC (hiz) "Logic Output C.", 6 VOD (hiz) "Logic Output D.", 7 VDDL (power) "Data Channel Supply Voltage, 3.0 V to 5.5 V. Pin 1 and Pin 7 must be connected to the same external voltage source.", 8 GND1 (power) "Ground Reference for the Primary Side of the Isolator. Pin 2 and Pin 8 are internally connected to each other, and it is recommended that both pins be connected to a common ground.", 9 GNDISO (power) "Ground Reference for the Secondary Side of the Isolator. Pin 9 and Pin 15 are internally connected to each other, and it is recommended that both pins be connected to a common ground.", 10 VSEL (in) "Output Voltage Selection. When VSEL = VISO, the VISO setpoint is 5.0 V. When VSEL = GNDISO, the VISO setpoint is 3.3 V.", 11 VID (in) "Logic Input D.", 12 VIC (in) "Logic Input C.", 13 VIB (in) "Logic Input B.", 14 VIA (in) "Logic Input A.", 15 GNDISO (power) "Ground Reference for the Secondary Side of the Isolator. Pin 9 and Pin 15 are internally connected to each other, and it is recommended that both pins be connected to a common ground.", 16 VISO (power) "Secondary Supply Voltage Output for External Loads: 3.3 V (VSEL = GNDISO) or 5.0 V (VSEL = VISO)."

## ADUM6404CRIZ-RL
designator U?
Quad Channel Isolator with Integrated DC / DC Converter, 5 KV rms Insulation Rating, 25 Mbps Data Rate, 60 ns Delay, Industrial, 16-pin SOIC (RI-16-1), Reel; Manufacturer: Analog Devices; PartNumber: ADUM6404CRIZ-RL; Insulation Rating (kVrms): 2.5; Max Data Rate: 25Mbps; Prop Delay: 60ns; DatasheetVersion: Rev. A; PackageVersion: 10-12-2010-A, 02/2012; PackageReference: RI-16-1; PackageDescription: 16-Pin Standard Small Outline Package, with Increased Creepage, Body 12.8 x 7.5 mm, Pitch 1.27 mm; Supplier 1: Digi-Key; Supplier Part Number 1: ADUM6404CRIZ-RL-ND; Supplier 2: Mouser; Supplier Part Number 2: 584-ADUM6404CRIZ-R; Max Operating Temp (degreesC): 105; Mounting Technology: Surface Mount; Code_JEDEC: MS-013-AC; ComponentLink1Description: Manufacturer URL; ComponentLink1URL: http://www.analog.com/en/index.html; ComponentLink2Description: Datasheet; ComponentLink2URL: http://www.analog.com/static/imported-files/data_sheets/ADuM6400_6401_6402_6403_6404.pdf; ComponentLink3Description: Package Specification; ComponentLink3URL: http://www.analog.com/static/imported-files/data_sheets/ADuM2400_2401_2402.pdf
footprint ADI-RI-16-1_N (SOIC, 16-Leads, Body 12.8x7.5mm, Pitch 1.27mm, IPC Medium Density)
footprint ADI-RI-16-1_L (SOIC, 16-Leads, Body 12.8x7.5mm, Pitch 1.27mm, IPC High Density)
footprint ADI-RI-16-1_M (SOIC, 16-Leads, Body 12.8x7.5mm, Pitch 1.27mm, IPC Low Density)
pins: 1 VDD1 (power) "Primary Supply Voltage, 3.0 V to 5.5 V. Pin 1 and Pin 7 must be connected to the same external voltage source.", 2 GND1 (power) "Ground Reference for the Primary Side of the Isolator. Pin 2 and Pin 8 are internally connected to each other, and it is recommended that both pins be connected to a common ground.", 3 VOA (hiz) "Logic Output A.", 4 VOB (hiz) "Logic Output B.", 5 VOC (hiz) "Logic Output C.", 6 VOD (hiz) "Logic Output D.", 7 VDDL (power) "Data Channel Supply Voltage, 3.0 V to 5.5 V. Pin 1 and Pin 7 must be connected to the same external voltage source.", 8 GND1 (power) "Ground Reference for the Primary Side of the Isolator. Pin 2 and Pin 8 are internally connected to each other, and it is recommended that both pins be connected to a common ground.", 9 GNDISO (power) "Ground Reference for the Secondary Side of the Isolator. Pin 9 and Pin 15 are internally connected to each other, and it is recommended that both pins be connected to a common ground.", 10 VSEL (in) "Output Voltage Selection. When VSEL = VISO, the VISO setpoint is 5.0 V. When VSEL = GNDISO, the VISO setpoint is 3.3 V.", 11 VID (in) "Logic Input D.", 12 VIC (in) "Logic Input C.", 13 VIB (in) "Logic Input B.", 14 VIA (in) "Logic Input A.", 15 GNDISO (power) "Ground Reference for the Secondary Side of the Isolator. Pin 9 and Pin 15 are internally connected to each other, and it is recommended that both pins be connected to a common ground.", 16 VISO (power) "Secondary Supply Voltage Output for External Loads: 3.3 V (VSEL = GNDISO) or 5.0 V (VSEL = VISO)."

## ADUM6404CRWZ
designator U?
Quad Channel Isolator with Integrated DC / DC Converter, 5 KV rms Insulation Rating, 25 Mbps Data Rate, 60 ns Delay, Industrial, 16-pin SOIC (RW-16), Tube; Manufacturer: Analog Devices; PartNumber: ADUM6404CRWZ; Insulation Rating (kVrms): 5; Max Data Rate: 25Mbps; Prop Delay: 60ns; DatasheetVersion: Rev. A; PackageVersion: 032707-B, 03/2007; PackageReference: RW-16; PackageDescription: 16-Pin Standard Small Outline Package, Body 10.3 x 7.5 mm, Pitch 1.27 mm; Supplier 1: Digi-Key; Supplier Part Number 1: ADUM6404CRWZ-ND; Supplier 2: Farnell; Supplier Part Number 2: 2312711; Supplier 3: Mouser; Supplier Part Number 3: 584-ADUM6404CRWZ; Max Operating Temp (degreesC): 105; Mounting Technology: Surface Mount; Code_JEDEC: MS-013-AA; ComponentLink1Description: Manufacturer URL; ComponentLink1URL: http://www.analog.com/en/index.html; ComponentLink2Description: Datasheet; ComponentLink2URL: http://www.analog.com/static/imported-files/data_sheets/ADuM6400_6401_6402_6403_6404.pdf; ComponentLink3Description: Package Specification; ComponentLink3URL: http://www.analog.com/static/imported-files/packages/PKG_PDF/SOIC_WIDE%20%28RW%29/RW_16.pdf
footprint ADI-RW-16_N (SOIC, 16-Leads, Body 10.3x7.5mm, Pitch 1.27mm, IPC Medium Density)
footprint ADI-RW-16_L (SOIC, 16-Leads, Body 10.3x7.5mm, Pitch 1.27mm, IPC High Density)
footprint ADI-RW-16_M (SOIC, 16-Leads, Body 10.3x7.5mm, Pitch 1.27mm, IPC Low Density)
pins: 1 VDD1 (power) "Primary Supply Voltage, 3.0 V to 5.5 V. Pin 1 and Pin 7 must be connected to the same external voltage source.", 2 GND1 (power) "Ground Reference for the Primary Side of the Isolator. Pin 2 and Pin 8 are internally connected to each other, and it is recommended that both pins be connected to a common ground.", 3 VOA (hiz) "Logic Output A.", 4 VOB (hiz) "Logic Output B.", 5 VOC (hiz) "Logic Output C.", 6 VOD (hiz) "Logic Output D.", 7 VDDL (power) "Data Channel Supply Voltage, 3.0 V to 5.5 V. Pin 1 and Pin 7 must be connected to the same external voltage source.", 8 GND1 (power) "Ground Reference for the Primary Side of the Isolator. Pin 2 and Pin 8 are internally connected to each other, and it is recommended that both pins be connected to a common ground.", 9 GNDISO (power) "Ground Reference for the Secondary Side of the Isolator. Pin 9 and Pin 15 are internally connected to each other, and it is recommended that both pins be connected to a common ground.", 10 VSEL (in) "Output Voltage Selection. When VSEL = VISO, the VISO setpoint is 5.0 V. When VSEL = GNDISO, the VISO setpoint is 3.3 V.", 11 VID (in) "Logic Input D.", 12 VIC (in) "Logic Input C.", 13 VIB (in) "Logic Input B.", 14 VIA (in) "Logic Input A.", 15 GNDISO (power) "Ground Reference for the Secondary Side of the Isolator. Pin 9 and Pin 15 are internally connected to each other, and it is recommended that both pins be connected to a common ground.", 16 VISO (power) "Secondary Supply Voltage Output for External Loads: 3.3 V (VSEL = GNDISO) or 5.0 V (VSEL = VISO)."

## ADUM6404CRWZ-RL
designator U?
Quad Channel Isolator with Integrated DC / DC Converter, 5 KV rms Insulation Rating, 25 Mbps Data Rate, 60 ns Delay, Industrial, 16-pin SOIC (RW-16), Reel; Manufacturer: Analog Devices; PartNumber: ADUM6404CRWZ-RL; Insulation Rating (kVrms): 5; Max Data Rate: 25Mbps; Prop Delay: 60ns; DatasheetVersion: Rev. A; PackageVersion: 032707-B, 03/2007; PackageReference: RW-16; PackageDescription: 16-Pin Standard Small Outline Package, Body 10.3 x 7.5 mm, Pitch 1.27 mm; Supplier 1: Digi-Key; Supplier Part Number 1: ADUM6404CRWZ-RL-ND; Supplier 2: Mouser; Supplier Part Number 2: 584-ADUM6404CRWZ-R; Max Operating Temp (degreesC): 105; Mounting Technology: Surface Mount; Code_JEDEC: MS-013-AA; ComponentLink1Description: Manufacturer URL; ComponentLink1URL: http://www.analog.com/en/index.html; ComponentLink2Description: Datasheet; ComponentLink2URL: http://www.analog.com/static/imported-files/data_sheets/ADuM6400_6401_6402_6403_6404.pdf; ComponentLink3Description: Package Specification; ComponentLink3URL: http://www.analog.com/static/imported-files/packages/PKG_PDF/SOIC_WIDE%20%28RW%29/RW_16.pdf
footprint ADI-RW-16_N (SOIC, 16-Leads, Body 10.3x7.5mm, Pitch 1.27mm, IPC Medium Density)
footprint ADI-RW-16_L (SOIC, 16-Leads, Body 10.3x7.5mm, Pitch 1.27mm, IPC High Density)
footprint ADI-RW-16_M (SOIC, 16-Leads, Body 10.3x7.5mm, Pitch 1.27mm, IPC Low Density)
pins: 1 VDD1 (power) "Primary Supply Voltage, 3.0 V to 5.5 V. Pin 1 and Pin 7 must be connected to the same external voltage source.", 2 GND1 (power) "Ground Reference for the Primary Side of the Isolator. Pin 2 and Pin 8 are internally connected to each other, and it is recommended that both pins be connected to a common ground.", 3 VOA (hiz) "Logic Output A.", 4 VOB (hiz) "Logic Output B.", 5 VOC (hiz) "Logic Output C.", 6 VOD (hiz) "Logic Output D.", 7 VDDL (power) "Data Channel Supply Voltage, 3.0 V to 5.5 V. Pin 1 and Pin 7 must be connected to the same external voltage source.", 8 GND1 (power) "Ground Reference for the Primary Side of the Isolator. Pin 2 and Pin 8 are internally connected to each other, and it is recommended that both pins be connected to a common ground.", 9 GNDISO (power) "Ground Reference for the Secondary Side of the Isolator. Pin 9 and Pin 15 are internally connected to each other, and it is recommended that both pins be connected to a common ground.", 10 VSEL (in) "Output Voltage Selection. When VSEL = VISO, the VISO setpoint is 5.0 V. When VSEL = GNDISO, the VISO setpoint is 3.3 V.", 11 VID (in) "Logic Input D.", 12 VIC (in) "Logic Input C.", 13 VIB (in) "Logic Input B.", 14 VIA (in) "Logic Input A.", 15 GNDISO (power) "Ground Reference for the Secondary Side of the Isolator. Pin 9 and Pin 15 are internally connected to each other, and it is recommended that both pins be connected to a common ground.", 16 VISO (power) "Secondary Supply Voltage Output for External Loads: 3.3 V (VSEL = GNDISO) or 5.0 V (VSEL = VISO)."

## ADUM7240ARZ
designator U?
Dual Channel Digital Isolator, 1 KV rms Insulation Rating, 1 Mbps Data Rate, 75 ns Delay, Industrial, 8-pin SOIC (R-8), Tube; Manufacturer: Analog Devices; PartNumber: ADUM7240ARZ; Insulation Rating (kVrms): 1; Max Data Rate: 1Mbps; DatasheetVersion: Rev. A; PackageVersion: 060506-A, 06/2006; PackageReference: R-8; PackageDescription: 8-Pin Standard Small Outline Package, Body 4.9 x 3.9 mm, Pitch 1.27 mm; Supplier 1: Digi-Key; Supplier Part Number 1: ADUM7240ARZ-ND; Supplier 2: Mouser; Supplier Part Number 2: 584-ADUM7240ARZ; Max Operating Temp (degreesC): 125; Mounting Technology: Surface Mount; Code_JEDEC: MS-012-AA; ComponentLink1Description: Manufacturer URL; ComponentLink1URL: http://www.analog.com/en/index.html; ComponentLink2Description: Datasheet; ComponentLink2URL: http://www.analog.com/static/imported-files/data_sheets/ADuM7240_7241.pdf; ComponentLink3Description: Package Specification; ComponentLink3URL: http://www.analog.com/static/imported-files/packages/PKG_PDF/SOIC_Narrow%20(R)/R_8.pdf; ComponentLink4Description: URL Link1; ComponentLink4URL: Product URL:http://www.analog.com/en/interface-isolation/digital-isolators/adum7240/products/product.html
footprint ADI-R-8_N (SOIC, 8-Leads, Body 4.9x3.9mm, Pitch 1.27mm, IPC Medium Density)
footprint ADI-R-8_L (SOIC, 8-Leads, Body 4.9x3.9mm, Pitch 1.27mm, IPC High Density)
footprint ADI-R-8_M (SOIC, 8-Leads, Body 4.9x3.9mm, Pitch 1.27mm, IPC Low Density)
pins: 1 VDD1 (power) "Supply Voltage for Isolator Side 1.", 2 VIA (in) "Logic Input A.", 3 VIB (in) "Logic Input B.", 4 GND1 (power) "Ground 1. Ground Reference for Isolator Side 1.", 5 GND2 (power) "Ground 2. Ground Reference for Isolator Side 2.", 6 VOB (out) "Logic Output B.", 7 VOA (out) "Logic Output A.", 8 VDD2 (power) "Supply Voltage for Isolator Side 2."